# EAGLE library part ARM_JTAG/SWD_HEADER (library usevolt)
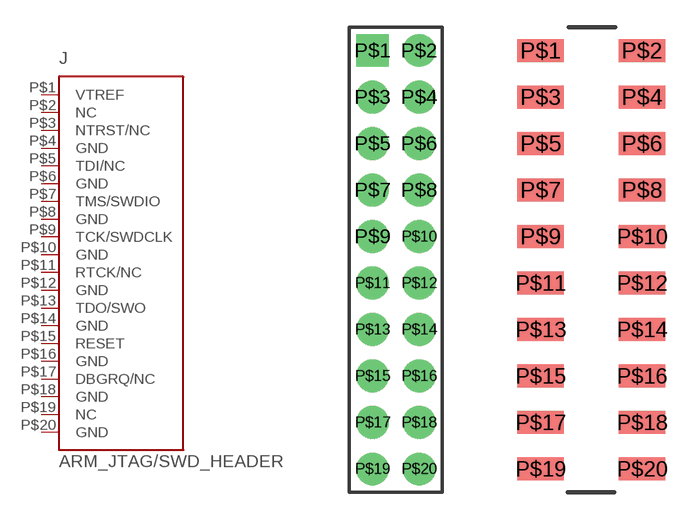
[diagram p15: symbol with the pads of HEADER_10_2; footprints HEADER_10_2, HEADER_10_2_SMD]

Designator prefix J

## ARM_JTAG/SWD_HEADERTROUGHT_HOLE  [HEADER_10_2]
P$1  VTREF
P$2  NC
P$3  NTRST/NC
P$4  GND
P$5  TDI/NC
P$6  GND
P$7  TMS/SWDIO
P$8  GND
P$9  TCK/SWDCLK
P$10  GND
P$11  RTCK/NC
P$12  GND
P$13  TDO/SWO
P$14  GND
P$15  RESET
P$16  GND
P$17  DBGRQ/NC
P$18  GND
P$19  NC
P$20  GND

## ARM_JTAG/SWD_HEADERSMD  [HEADER_10_2_SMD]
Pads as for HEADER_10_2

## Footprint HEADER_10_2 (pad centres in mm)
drill 1.016 pad 1.778 square: P$1 0,0
drill 1.016 pad 1.778: P$2 2.54,0; P$3 0,-2.54; P$4 2.54,-2.54; P$5 0,-5.08; P$6 2.54,-5.08; P$7 0,-7.62; P$8 2.54,-7.62; P$9 0,-10.16; P$10 2.54,-10.16; P$11 0,-12.7; P$12 2.54,-12.7; P$13 0,-15.24; P$14 2.54,-15.24; P$15 0,-17.78; P$16 2.54,-17.78; P$17 0,-20.32; P$18 2.54,-20.32; P$19 0,-22.86; P$20 2.54,-22.86

## Footprint HEADER_10_2_SMD (pad centres in mm)
smd 2.54 x 1.27: P$1 -2.997,11.43; P$2 2.54,11.43; P$3 -2.997,8.89; P$4 2.54,8.89; P$5 -2.997,6.35; P$6 2.54,6.35; P$7 -2.997,3.81; P$8 2.54,3.81; P$9 -2.997,1.27; P$10 2.54,1.27; P$11 -2.997,-1.27; P$12 2.54,-1.27; P$13 -2.997,-3.81; P$14 2.54,-3.81; P$15 -2.997,-6.35; P$16 2.54,-6.35; P$17 -2.997,-8.89; P$18 2.54,-8.89; P$19 -2.997,-11.43; P$20 2.54,-11.43